# Altium integrated library Altium_WCAP-ASLI (rev22d).IntLib: 142 symbols (part 3 of 3)
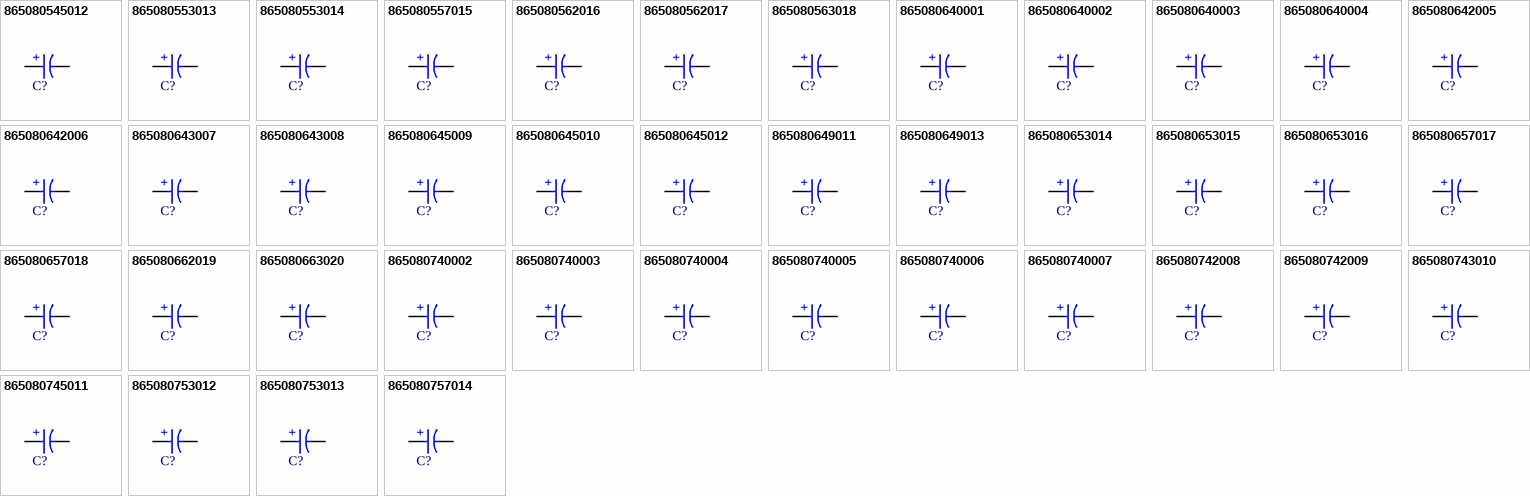
[diagram p5: symbols 865080545012 to 865080757014]

## 865080657017
designator C?, comment 150uF  (value not drawn)
WCAP-ASLI Aluminum Electrolytic Capacitor, V-Chip, D10 x H10.5mm, 150uF, 50V; Manufacturer Part Number: 865080657017; Manufacturer: Wurth Elektronik; Capacitance Tolerance: +/-20%; Dissipation Factor: 12%; Endurance: 2000h; Leakage Current: 75uA; Ripple Current: 600mA; Technical Reference: ASEF105151M050DVCTEB000; Category: Aluminum Electrolytic Capacitors; Match Code: WCAP-ASLI; ComponentLink1Description: Website Link; ComponentLink1URL: https://www.we-online.com/redexpert/article/865080657017?ad; ComponentLink2Description: Datasheet Link; ComponentLink2URL: https://www.we-online.com/redexpert/spec/865080657017?ad; Mount: Surface Mount; Operating Temperature Max: 105°C; Operating Temperature Min: -55°C; Packaging: Tape and Reel; Height: 10.5mm; Diameter: 10mm; Capacitance: 150uF; Rated Voltage (DC): 50V
footprint WCAP-ASLI_D10H10.5
simulation model 865080657017_150uF
pins: 1 P, 2 N
text: +

## 865080657018
designator C?, comment 220uF  (value not drawn)
WCAP-ASLI Aluminum Electrolytic Capacitor, V-Chip, D10 x H10.5mm, 220uF, 50V; Manufacturer Part Number: 865080657018; Manufacturer: Wurth Elektronik; Capacitance Tolerance: +/-20%; Dissipation Factor: 12%; Endurance: 2000h; Leakage Current: 110uA; Ripple Current: 650mA; Technical Reference: ASEF105221M050DVCTEB000; Category: Aluminum Electrolytic Capacitors; Match Code: WCAP-ASLI; ComponentLink1Description: Website Link; ComponentLink1URL: https://www.we-online.com/redexpert/article/865080657018?ad; ComponentLink2Description: Datasheet Link; ComponentLink2URL: https://www.we-online.com/redexpert/spec/865080657018?ad; Mount: Surface Mount; Operating Temperature Max: 105°C; Operating Temperature Min: -55°C; Packaging: Tape and Reel; Height: 10.5mm; Diameter: 10mm; Capacitance: 220uF; Rated Voltage (DC): 50V
footprint WCAP-ASLI_D10H10.5
simulation model 865080657018_220uF
pins: 1 P, 2 N
text: +

## 865080662019
designator C?, comment 330uF  (value not drawn)
WCAP-ASLI Aluminum Electrolytic Capacitor, V-Chip, D12.5 x H14mm, 330uF, 50V; Manufacturer Part Number: 865080662019; Manufacturer: Wurth Elektronik; Capacitance Tolerance: +/-20%; Dissipation Factor: 12%; Endurance: 5000h; Leakage Current: 165uA; Ripple Current: 800mA; Technical Reference: ASEH140331M050DVCTGE000; Category: Aluminum Electrolytic Capacitors; Match Code: WCAP-ASLI; ComponentLink1Description: Website Link; ComponentLink1URL: https://www.we-online.com/redexpert/article/865080662019?ad; ComponentLink2Description: Datasheet Link; ComponentLink2URL: https://www.we-online.com/redexpert/spec/865080662019?ad; Mount: Surface Mount; Operating Temperature Max: 105°C; Operating Temperature Min: -55°C; Packaging: Tape and Reel; Height: 14mm; Diameter: 12.5mm; Capacitance: 330uF; Rated Voltage (DC): 50V
footprint WCAP-ASLI_D12.5H14
simulation model 865080662019_330uF
pins: 1 P, 2 N
text: +

## 865080663020
designator C?, comment 1000uF  (value not drawn)
WCAP-ASLI Aluminum Electrolytic Capacitor, V-Chip, D16 x H17mm, 1000uF, 50V; Manufacturer Part Number: 865080663020; Manufacturer: Wurth Elektronik; Capacitance Tolerance: +/-20%; Dissipation Factor: 12%; Endurance: 5000h; Leakage Current: 500uA; Ripple Current: 1000mA; Technical Reference: ASEK170102M050DVCTHE000; Category: Aluminum Electrolytic Capacitors; Match Code: WCAP-ASLI; ComponentLink1Description: Website Link; ComponentLink1URL: https://www.we-online.com/redexpert/article/865080663020?ad; ComponentLink2Description: Datasheet Link; ComponentLink2URL: https://www.we-online.com/redexpert/spec/865080663020?ad; Mount: Surface Mount; Operating Temperature Max: 105°C; Operating Temperature Min: -55°C; Packaging: Tape and Reel; Height: 17mm; Diameter: 16mm; Capacitance: 1000uF; Rated Voltage (DC): 50V
footprint WCAP-ASLI_D16H17
simulation model 865080663020_1mF
pins: 1 P, 2 N
text: +

## 865080740002
designator C?, comment 0.1uF  (value not drawn)
WCAP-ASLI Aluminum Electrolytic Capacitor, V-Chip, D4 x H5.5mm, 0.1uF, 63V; Manufacturer Part Number: 865080740002; Manufacturer: Wurth Elektronik; Capacitance Tolerance: +/-20%; Dissipation Factor: 12%; Endurance: 2000h; Leakage Current: 3uA; Ripple Current: 1mA; Technical Reference: ASEB055R10M063DVCTAB000; Category: Aluminum Electrolytic Capacitors; Match Code: WCAP-ASLI; ComponentLink1Description: Website Link; ComponentLink1URL: https://www.we-online.com/redexpert/article/865080740002?ad; ComponentLink2Description: Datasheet Link; ComponentLink2URL: https://www.we-online.com/redexpert/spec/865080740002?ad; Mount: Surface Mount; Operating Temperature Max: 105°C; Operating Temperature Min: -55°C; Packaging: Tape and Reel; Height: 5.5mm; Diameter: 4mm; Capacitance: 0.1uF; Rated Voltage (DC): 63V
footprint WCAP-ASLI_D4H5.5
simulation model 865080740002_100nF
pins: 1 P, 2 N
text: +

## 865080740003
designator C?, comment 0.22uF  (value not drawn)
WCAP-ASLI Aluminum Electrolytic Capacitor, V-Chip, D4 x H5.5mm, 0.22uF, 63V; Manufacturer Part Number: 865080740003; Manufacturer: Wurth Elektronik; Capacitance Tolerance: +/-20%; Dissipation Factor: 12%; Endurance: 2000h; Leakage Current: 3uA; Ripple Current: 2mA; Technical Reference: ASEB055R22M063DVCTAB000; Category: Aluminum Electrolytic Capacitors; Match Code: WCAP-ASLI; ComponentLink1Description: Website Link; ComponentLink1URL: https://www.we-online.com/redexpert/article/865080740003?ad; ComponentLink2Description: Datasheet Link; ComponentLink2URL: https://www.we-online.com/redexpert/spec/865080740003?ad; Mount: Surface Mount; Operating Temperature Max: 105°C; Operating Temperature Min: -55°C; Packaging: Tape and Reel; Height: 5.5mm; Diameter: 4mm; Capacitance: 0.22uF; Rated Voltage (DC): 63V
footprint WCAP-ASLI_D4H5.5
simulation model 865080740003_220nF
pins: 1 P, 2 N
text: +

## 865080740004
designator C?, comment 0.33uF  (value not drawn)
WCAP-ASLI Aluminum Electrolytic Capacitor, V-Chip, D4 x H5.5mm, 0.33uF, 63V; Manufacturer Part Number: 865080740004; Manufacturer: Wurth Elektronik; Capacitance Tolerance: +/-20%; Dissipation Factor: 12%; Endurance: 2000h; Leakage Current: 3uA; Ripple Current: 3mA; Technical Reference: ASEB055R33M063DVCTAB000; Category: Aluminum Electrolytic Capacitors; Match Code: WCAP-ASLI; ComponentLink1Description: Website Link; ComponentLink1URL: https://www.we-online.com/redexpert/article/865080740004?ad; ComponentLink2Description: Datasheet Link; ComponentLink2URL: https://www.we-online.com/redexpert/spec/865080740004?ad; Mount: Surface Mount; Operating Temperature Max: 105°C; Operating Temperature Min: -55°C; Packaging: Tape and Reel; Height: 5.5mm; Diameter: 4mm; Capacitance: 0.33uF; Rated Voltage (DC): 63V
footprint WCAP-ASLI_D4H5.5
simulation model 865080740004_330nF
pins: 1 P, 2 N
text: +

## 865080740005
designator C?, comment 0.47uF  (value not drawn)
WCAP-ASLI Aluminum Electrolytic Capacitor, V-Chip, D4 x H5.5mm, 0.47uF, 63V; Manufacturer Part Number: 865080740005; Manufacturer: Wurth Elektronik; Capacitance Tolerance: +/-20%; Dissipation Factor: 12%; Endurance: 2000h; Leakage Current: 3uA; Ripple Current: 3.5mA; Technical Reference: ASEB055R47M063DVCTAB000; Category: Aluminum Electrolytic Capacitors; Match Code: WCAP-ASLI; ComponentLink1Description: Website Link; ComponentLink1URL: https://www.we-online.com/redexpert/article/865080740005?ad; ComponentLink2Description: Datasheet Link; ComponentLink2URL: https://www.we-online.com/redexpert/spec/865080740005?ad; Mount: Surface Mount; Operating Temperature Max: 105°C; Operating Temperature Min: -55°C; Packaging: Tape and Reel; Height: 5.5mm; Diameter: 4mm; Capacitance: 0.47uF; Rated Voltage (DC): 63V
footprint WCAP-ASLI_D4H5.5
simulation model 865080740005_470nF
pins: 1 P, 2 N
text: +

## 865080740006
designator C?, comment 1uF  (value not drawn)
WCAP-ASLI Aluminum Electrolytic Capacitor, V-Chip, D4 x H5.5mm, 1uF, 63V; Manufacturer Part Number: 865080740006; Manufacturer: Wurth Elektronik; Capacitance Tolerance: +/-20%; Dissipation Factor: 12%; Endurance: 2000h; Leakage Current: 3uA; Ripple Current: 7mA; Technical Reference: ASEB055010M063DVCTAB000; Category: Aluminum Electrolytic Capacitors; Match Code: WCAP-ASLI; ComponentLink1Description: Website Link; ComponentLink1URL: https://www.we-online.com/redexpert/article/865080740006?ad; ComponentLink2Description: Datasheet Link; ComponentLink2URL: https://www.we-online.com/redexpert/spec/865080740006?ad; Mount: Surface Mount; Operating Temperature Max: 105°C; Operating Temperature Min: -55°C; Packaging: Tape and Reel; Height: 5.5mm; Diameter: 4mm; Capacitance: 1uF; Rated Voltage (DC): 63V
footprint WCAP-ASLI_D4H5.5
simulation model 865080740006_1uF
pins: 1 P, 2 N
text: +

## 865080740007
designator C?, comment 2.2uF  (value not drawn)
WCAP-ASLI Aluminum Electrolytic Capacitor, V-Chip, D4 x H5.5mm, 2.2uF, 63V; Manufacturer Part Number: 865080740007; Manufacturer: Wurth Elektronik; Capacitance Tolerance: +/-20%; Dissipation Factor: 12%; Endurance: 2000h; Leakage Current: 3uA; Ripple Current: 11mA; Technical Reference: ASEB0552R2M063DVCTAB000; Category: Aluminum Electrolytic Capacitors; Match Code: WCAP-ASLI; ComponentLink1Description: Website Link; ComponentLink1URL: https://www.we-online.com/redexpert/article/865080740007?ad; ComponentLink2Description: Datasheet Link; ComponentLink2URL: https://www.we-online.com/redexpert/spec/865080740007?ad; Mount: Surface Mount; Operating Temperature Max: 105°C; Operating Temperature Min: -55°C; Packaging: Tape and Reel; Height: 5.5mm; Diameter: 4mm; Capacitance: 2.2uF; Rated Voltage (DC): 63V
footprint WCAP-ASLI_D4H5.5
simulation model 865080740007_2.2uF
pins: 1 P, 2 N
text: +

## 865080742008
designator C?, comment 3.3uF  (value not drawn)
WCAP-ASLI Aluminum Electrolytic Capacitor, V-Chip, D5 x H5.5mm, 3.3uF, 63V; Manufacturer Part Number: 865080742008; Manufacturer: Wurth Elektronik; Capacitance Tolerance: +/-20%; Dissipation Factor: 12%; Endurance: 2000h; Leakage Current: 3uA; Ripple Current: 14mA; Technical Reference: ASEC0553R3M063DVCTBB000; Category: Aluminum Electrolytic Capacitors; Match Code: WCAP-ASLI; ComponentLink1Description: Website Link; ComponentLink1URL: https://www.we-online.com/redexpert/article/865080742008?ad; ComponentLink2Description: Datasheet Link; ComponentLink2URL: https://www.we-online.com/redexpert/spec/865080742008?ad; Mount: Surface Mount; Operating Temperature Max: 105°C; Operating Temperature Min: -55°C; Packaging: Tape and Reel; Height: 5.5mm; Diameter: 5mm; Capacitance: 3.3uF; Rated Voltage (DC): 63V
footprint WCAP-ASLI_D5H5.5
simulation model 865080742008_3.3uF
pins: 1 P, 2 N
text: +

## 865080742009
designator C?, comment 4.7uF  (value not drawn)
WCAP-ASLI Aluminum Electrolytic Capacitor, V-Chip, D5 x H5.5mm, 4.7uF, 63V; Manufacturer Part Number: 865080742009; Manufacturer: Wurth Elektronik; Capacitance Tolerance: +/-20%; Dissipation Factor: 12%; Endurance: 2000h; Leakage Current: 3uA; Ripple Current: 22mA; Technical Reference: ASEC0554R7M063DVCTBB000; Category: Aluminum Electrolytic Capacitors; Match Code: WCAP-ASLI; ComponentLink1Description: Website Link; ComponentLink1URL: https://www.we-online.com/redexpert/article/865080742009?ad; ComponentLink2Description: Datasheet Link; ComponentLink2URL: https://www.we-online.com/redexpert/spec/865080742009?ad; Mount: Surface Mount; Operating Temperature Max: 105°C; Operating Temperature Min: -55°C; Packaging: Tape and Reel; Height: 5.5mm; Diameter: 5mm; Capacitance: 4.7uF; Rated Voltage (DC): 63V
footprint WCAP-ASLI_D5H5.5
simulation model 865080742009_4.7uF
pins: 1 P, 2 N
text: +

## 865080743010
designator C?, comment 10uF  (value not drawn)
WCAP-ASLI Aluminum Electrolytic Capacitor, V-Chip, D6.3 x H5.5mm, 10uF, 63V; Manufacturer Part Number: 865080743010; Manufacturer: Wurth Elektronik; Capacitance Tolerance: +/-20%; Dissipation Factor: 12%; Endurance: 2000h; Leakage Current: 6.3uA; Ripple Current: 40mA; Technical Reference: ASED055100M063DVCTBB000; Category: Aluminum Electrolytic Capacitors; Match Code: WCAP-ASLI; ComponentLink1Description: Website Link; ComponentLink1URL: https://www.we-online.com/redexpert/article/865080743010?ad; ComponentLink2Description: Datasheet Link; ComponentLink2URL: https://www.we-online.com/redexpert/spec/865080743010?ad; Mount: Surface Mount; Operating Temperature Max: 105°C; Operating Temperature Min: -55°C; Packaging: Tape and Reel; Height: 5.5mm; Diameter: 6.3mm; Capacitance: 10uF; Rated Voltage (DC): 63V
footprint WCAP-ASLI_D6.3H5.5
simulation model 865080743010_10uF
pins: 1 P, 2 N
text: +

## 865080745011
designator C?, comment 22uF  (value not drawn)
WCAP-ASLI Aluminum Electrolytic Capacitor, V-Chip, D6.3 x H7.7mm, 22uF, 63V; Manufacturer Part Number: 865080745011; Manufacturer: Wurth Elektronik; Capacitance Tolerance: +/-20%; Dissipation Factor: 12%; Endurance: 2000h; Leakage Current: 13.86uA; Ripple Current: 58mA; Technical Reference: ASED077220M063DVCTCB000; Category: Aluminum Electrolytic Capacitors; Match Code: WCAP-ASLI; ComponentLink1Description: Website Link; ComponentLink1URL: https://www.we-online.com/redexpert/article/865080745011?ad; ComponentLink2Description: Datasheet Link; ComponentLink2URL: https://www.we-online.com/redexpert/spec/865080745011?ad; Mount: Surface Mount; Operating Temperature Max: 105°C; Operating Temperature Min: -55°C; Packaging: Tape and Reel; Height: 7.7mm; Diameter: 6.3mm; Capacitance: 22uF; Rated Voltage (DC): 63V
footprint WCAP-ASLI_D6.3H7.7
simulation model 865080745011_22uF
pins: 1 P, 2 N
text: +

## 865080753012
designator C?, comment 33uF  (value not drawn)
WCAP-ASLI Aluminum Electrolytic Capacitor, V-Chip, D8 x H10.5mm, 33uF, 63V; Manufacturer Part Number: 865080753012; Manufacturer: Wurth Elektronik; Capacitance Tolerance: +/-20%; Dissipation Factor: 12%; Endurance: 2000h; Leakage Current: 20.79uA; Ripple Current: 112mA; Technical Reference: ASEE105330M063DVCTEB000; Category: Aluminum Electrolytic Capacitors; Match Code: WCAP-ASLI; ComponentLink1Description: Website Link; ComponentLink1URL: https://www.we-online.com/redexpert/article/865080753012?ad; ComponentLink2Description: Datasheet Link; ComponentLink2URL: https://www.we-online.com/redexpert/spec/865080753012?ad; Mount: Surface Mount; Operating Temperature Max: 105°C; Operating Temperature Min: -55°C; Packaging: Tape and Reel; Height: 10.5mm; Diameter: 8mm; Capacitance: 33uF; Rated Voltage (DC): 63V
footprint WCAP-ASLI_D8H10.5
simulation model 865080753012_33uF
pins: 1 P, 2 N
text: +

## 865080753013
designator C?, comment 47uF  (value not drawn)
WCAP-ASLI Aluminum Electrolytic Capacitor, V-Chip, D8 x H10.5mm, 47uF, 63V; Manufacturer Part Number: 865080753013; Manufacturer: Wurth Elektronik; Capacitance Tolerance: +/-20%; Dissipation Factor: 12%; Endurance: 2000h; Leakage Current: 29.61uA; Ripple Current: 119mA; Technical Reference: ASEE105470M063DVCTEB000; Category: Aluminum Electrolytic Capacitors; Match Code: WCAP-ASLI; ComponentLink1Description: Website Link; ComponentLink1URL: https://www.we-online.com/redexpert/article/865080753013?ad; ComponentLink2Description: Datasheet Link; ComponentLink2URL: https://www.we-online.com/redexpert/spec/865080753013?ad; Mount: Surface Mount; Operating Temperature Max: 105°C; Operating Temperature Min: -55°C; Packaging: Tape and Reel; Height: 10.5mm; Diameter: 8mm; Capacitance: 47uF; Rated Voltage (DC): 63V
footprint WCAP-ASLI_D8H10.5
simulation model 865080753013_47uF
pins: 1 P, 2 N
text: +

## 865080757014
designator C?, comment 100uF  (value not drawn)
WCAP-ASLI Aluminum Electrolytic Capacitor, V-Chip, D10 x H10.5mm, 100uF, 63V; Manufacturer Part Number: 865080757014; Manufacturer: Wurth Elektronik; Capacitance Tolerance: +/-20%; Dissipation Factor: 12%; Endurance: 2000h; Leakage Current: 63uA; Ripple Current: 280mA; Technical Reference: ASEF105101M063DVCTEB000; Category: Aluminum Electrolytic Capacitors; Match Code: WCAP-ASLI; ComponentLink1Description: Website Link; ComponentLink1URL: https://www.we-online.com/redexpert/article/865080757014?ad; ComponentLink2Description: Datasheet Link; ComponentLink2URL: https://www.we-online.com/redexpert/spec/865080757014?ad; Mount: Surface Mount; Operating Temperature Max: 105°C; Operating Temperature Min: -55°C; Packaging: Tape and Reel; Height: 10.5mm; Diameter: 10mm; Capacitance: 100uF; Rated Voltage (DC): 63V
footprint WCAP-ASLI_D10H10.5
simulation model 865080757014_100uF
pins: 1 P, 2 N
text: +

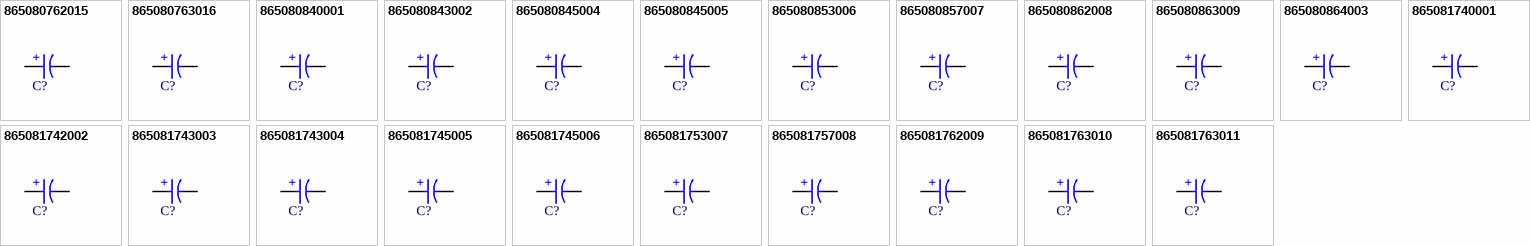
[diagram p3: symbols 865080762015 to 865081763011]

## 865080762015
designator C?, comment 220uF  (value not drawn)
WCAP-ASLI Aluminum Electrolytic Capacitor, V-Chip, D12.5 x H14mm, 220uF, 63V; Manufacturer Part Number: 865080762015; Manufacturer: Wurth Elektronik; Capacitance Tolerance: +/-20%; Dissipation Factor: 12%; Endurance: 2000h; Leakage Current: 138.6uA; Ripple Current: 300mA; Technical Reference: ASEH140221M063DVCTGB000; Category: Aluminum Electrolytic Capacitors; Match Code: WCAP-ASLI; ComponentLink1Description: Website Link; ComponentLink1URL: https://www.we-online.com/redexpert/article/865080762015?ad; ComponentLink2Description: Datasheet Link; ComponentLink2URL: https://www.we-online.com/redexpert/spec/865080762015?ad; Mount: Surface Mount; Operating Temperature Max: 105°C; Operating Temperature Min: -55°C; Packaging: Tape and Reel; Height: 14mm; Diameter: 12.5mm; Capacitance: 220uF; Rated Voltage (DC): 63V
footprint WCAP-ASLI_D12.5H14
simulation model 865080762015_220uF
pins: 1 P, 2 N
text: +

## 865080763016
designator C?, comment 470uF  (value not drawn)
WCAP-ASLI Aluminum Electrolytic Capacitor, V-Chip, D16 x H17mm, 470uF, 63V; Manufacturer Part Number: 865080763016; Manufacturer: Wurth Elektronik; Capacitance Tolerance: +/-20%; Dissipation Factor: 12%; Endurance: 2000h; Leakage Current: 296.1uA; Ripple Current: 630mA; Technical Reference: ASEK170471M063DVCTHB000; Category: Aluminum Electrolytic Capacitors; Match Code: WCAP-ASLI; ComponentLink1Description: Website Link; ComponentLink1URL: https://www.we-online.com/redexpert/article/865080763016?ad; ComponentLink2Description: Datasheet Link; ComponentLink2URL: https://www.we-online.com/redexpert/spec/865080763016?ad; Mount: Surface Mount; Operating Temperature Max: 105°C; Operating Temperature Min: -55°C; Packaging: Tape and Reel; Height: 17mm; Diameter: 16mm; Capacitance: 470uF; Rated Voltage (DC): 63V
footprint WCAP-ASLI_D16H17
simulation model 865080763016_470uF
pins: 1 P, 2 N
text: +

## 865080840001
designator C?, comment 1uF  (value not drawn)
WCAP-ASLI Aluminum Electrolytic Capacitor, V-Chip, D4 x H5.5mm, 1uF, 100V; Manufacturer Part Number: 865080840001; Manufacturer: Wurth Elektronik; Capacitance Tolerance: +/-20%; Dissipation Factor: 10%; Endurance: 2000h; Leakage Current: 3uA; Ripple Current: 7mA; Technical Reference: ASEB055010M100DVCTAB000; Category: Aluminum Electrolytic Capacitors; Match Code: WCAP-ASLI; ComponentLink1Description: Website Link; ComponentLink1URL: https://www.we-online.com/redexpert/article/865080840001?ad; ComponentLink2Description: Datasheet Link; ComponentLink2URL: https://www.we-online.com/redexpert/spec/865080840001?ad; Mount: Surface Mount; Operating Temperature Max: 105°C; Operating Temperature Min: -55°C; Packaging: Tape and Reel; Height: 5.5mm; Diameter: 4mm; Capacitance: 1uF; Rated Voltage (DC): 100V
footprint WCAP-ASLI_D4H5.5
simulation model 865080840001_1uF
pins: 1 P, 2 N
text: +

## 865080843002
designator C?, comment 2.2uF  (value not drawn)
WCAP-ASLI Aluminum Electrolytic Capacitor, V-Chip, D6.3 x H5.5mm, 2.2uF, 100V; Manufacturer Part Number: 865080843002; Manufacturer: Wurth Elektronik; Capacitance Tolerance: +/-20%; Dissipation Factor: 10%; Endurance: 2000h; Leakage Current: 3uA; Ripple Current: 13mA; Technical Reference: ASED0552R2M100DVCTBB000; Category: Aluminum Electrolytic Capacitors; Match Code: WCAP-ASLI; ComponentLink1Description: Website Link; ComponentLink1URL: https://www.we-online.com/redexpert/article/865080843002?ad; ComponentLink2Description: Datasheet Link; ComponentLink2URL: https://www.we-online.com/redexpert/spec/865080843002?ad; Mount: Surface Mount; Operating Temperature Max: 105°C; Operating Temperature Min: -55°C; Packaging: Tape and Reel; Height: 5.5mm; Diameter: 6.3mm; Capacitance: 2.2uF; Rated Voltage (DC): 100V
footprint WCAP-ASLI_D6.3H5.5
simulation model 865080843002_2.2uF
pins: 1 P, 2 N
text: +

## 865080845004
designator C?, comment 4.7uF  (value not drawn)
WCAP-ASLI Aluminum Electrolytic Capacitor, V-Chip, D6.3 x H7.7mm, 4.7uF, 100V; Manufacturer Part Number: 865080845004; Manufacturer: Wurth Elektronik; Capacitance Tolerance: +/-20%; Dissipation Factor: 10%; Endurance: 2000h; Leakage Current: 4.7uA; Ripple Current: 28mA; Technical Reference: ASED0774R7M100DVCTCB000; Category: Aluminum Electrolytic Capacitors; Match Code: WCAP-ASLI; ComponentLink1Description: Website Link; ComponentLink1URL: https://www.we-online.com/redexpert/article/865080845004?ad; ComponentLink2Description: Datasheet Link; ComponentLink2URL: https://www.we-online.com/redexpert/spec/865080845004?ad; Mount: Surface Mount; Operating Temperature Max: 105°C; Operating Temperature Min: -55°C; Packaging: Tape and Reel; Height: 7.7mm; Diameter: 6.3mm; Capacitance: 4.7uF; Rated Voltage (DC): 100V
footprint WCAP-ASLI_D6.3H7.7
simulation model 865080845004_4.7uF
pins: 1 P, 2 N
text: +

## 865080845005
designator C?, comment 10uF  (value not drawn)
WCAP-ASLI Aluminum Electrolytic Capacitor, V-Chip, D6.3 x H7.7mm, 10uF, 100V; Manufacturer Part Number: 865080845005; Manufacturer: Wurth Elektronik; Capacitance Tolerance: +/-20%; Dissipation Factor: 10%; Endurance: 2000h; Leakage Current: 10uA; Ripple Current: 35mA; Technical Reference: ASED077100M100DVCTCB000; Category: Aluminum Electrolytic Capacitors; Match Code: WCAP-ASLI; ComponentLink1Description: Website Link; ComponentLink1URL: https://www.we-online.com/redexpert/article/865080845005?ad; ComponentLink2Description: Datasheet Link; ComponentLink2URL: https://www.we-online.com/redexpert/spec/865080845005?ad; Mount: Surface Mount; Operating Temperature Max: 105°C; Operating Temperature Min: -55°C; Packaging: Tape and Reel; Height: 7.7mm; Diameter: 6.3mm; Capacitance: 10uF; Rated Voltage (DC): 100V
footprint WCAP-ASLI_D6.3H7.7
simulation model 865080845005_10uF
pins: 1 P, 2 N
text: +

## 865080853006
designator C?, comment 22uF  (value not drawn)
WCAP-ASLI Aluminum Electrolytic Capacitor, V-Chip, D8 x H10.5mm, 22uF, 100V; Manufacturer Part Number: 865080853006; Manufacturer: Wurth Elektronik; Capacitance Tolerance: +/-20%; Dissipation Factor: 10%; Endurance: 2000h; Leakage Current: 22uA; Ripple Current: 85mA; Technical Reference: ASEE105220M100DVCTEB000; Category: Aluminum Electrolytic Capacitors; Match Code: WCAP-ASLI; ComponentLink1Description: Website Link; ComponentLink1URL: https://www.we-online.com/redexpert/article/865080853006?ad; ComponentLink2Description: Datasheet Link; ComponentLink2URL: https://www.we-online.com/redexpert/spec/865080853006?ad; Mount: Surface Mount; Operating Temperature Max: 105°C; Operating Temperature Min: -55°C; Packaging: Tape and Reel; Height: 10.5mm; Diameter: 8mm; Capacitance: 22uF; Rated Voltage (DC): 100V
footprint WCAP-ASLI_D8H10.5
simulation model 865080853006_22uF
pins: 1 P, 2 N
text: +

## 865080857007
designator C?, comment 33uF  (value not drawn)
WCAP-ASLI Aluminum Electrolytic Capacitor, V-Chip, D10 x H10.5mm, 33uF, 100V; Manufacturer Part Number: 865080857007; Manufacturer: Wurth Elektronik; Capacitance Tolerance: +/-20%; Dissipation Factor: 10%; Endurance: 2000h; Leakage Current: 33uA; Ripple Current: 135mA; Technical Reference: ASEF105330M100DVCTEB000; Category: Aluminum Electrolytic Capacitors; Match Code: WCAP-ASLI; ComponentLink1Description: Website Link; ComponentLink1URL: https://www.we-online.com/redexpert/article/865080857007?ad; ComponentLink2Description: Datasheet Link; ComponentLink2URL: https://www.we-online.com/redexpert/spec/865080857007?ad; Mount: Surface Mount; Operating Temperature Max: 105°C; Operating Temperature Min: -55°C; Packaging: Tape and Reel; Height: 10.5mm; Diameter: 10mm; Capacitance: 33uF; Rated Voltage (DC): 100V
footprint WCAP-ASLI_D10H10.5
simulation model 865080857007_33uF
pins: 1 P, 2 N
text: +

## 865080862008
designator C?, comment 47uF  (value not drawn)
WCAP-ASLI Aluminum Electrolytic Capacitor, V-Chip, D12.5 x H14mm, 47uF, 100V; Manufacturer Part Number: 865080862008; Manufacturer: Wurth Elektronik; Capacitance Tolerance: +/-20%; Dissipation Factor: 10%; Endurance: 2000h; Leakage Current: 47uA; Ripple Current: 240mA; Technical Reference: ASEH140470M100DVCTGB000; Category: Aluminum Electrolytic Capacitors; Match Code: WCAP-ASLI; ComponentLink1Description: Website Link; ComponentLink1URL: https://www.we-online.com/redexpert/article/865080862008?ad; ComponentLink2Description: Datasheet Link; ComponentLink2URL: https://www.we-online.com/redexpert/spec/865080862008?ad; Mount: Surface Mount; Operating Temperature Max: 105°C; Operating Temperature Min: -55°C; Packaging: Tape and Reel; Height: 14mm; Diameter: 12.5mm; Capacitance: 47uF; Rated Voltage (DC): 100V
footprint WCAP-ASLI_D12.5H14
simulation model 865080862008_47uF
pins: 1 P, 2 N
text: +

## 865080863009
designator C?, comment 150uF  (value not drawn)
WCAP-ASLI Aluminum Electrolytic Capacitor, V-Chip, D16 x H17mm, 150uF, 100V; Manufacturer Part Number: 865080863009; Manufacturer: Wurth Elektronik; Capacitance Tolerance: +/-20%; Dissipation Factor: 10%; Endurance: 2000h; Leakage Current: 150uA; Ripple Current: 500mA; Technical Reference: ASEK170151M100DVCTHB000; Category: Aluminum Electrolytic Capacitors; Match Code: WCAP-ASLI; ComponentLink1Description: Website Link; ComponentLink1URL: https://www.we-online.com/redexpert/article/865080863009?ad; ComponentLink2Description: Datasheet Link; ComponentLink2URL: https://www.we-online.com/redexpert/spec/865080863009?ad; Mount: Surface Mount; Operating Temperature Max: 105°C; Operating Temperature Min: -55°C; Packaging: Tape and Reel; Height: 17mm; Diameter: 16mm; Capacitance: 150uF; Rated Voltage (DC): 100V
footprint WCAP-ASLI_D16H17
simulation model 865080863009_150uF
pins: 1 P, 2 N
text: +

## 865080864003
designator C?, comment 3.3uF  (value not drawn)
WCAP-ASLI Aluminum Electrolytic Capacitor, V-Chip, D6.3 x H6.1mm, 3.3uF, 100V; Manufacturer Part Number: 865080864003; Manufacturer: Wurth Elektronik; Capacitance Tolerance: +/-20%; Dissipation Factor: 10%; Endurance: 2000h; Leakage Current: 3.3uA; Ripple Current: 20mA; Technical Reference: ASED0613R3M100DVCTBB000; Category: Aluminum Electrolytic Capacitors; Match Code: WCAP-ASLI; ComponentLink1Description: Website Link; ComponentLink1URL: https://www.we-online.com/redexpert/article/865080864003?ad; ComponentLink2Description: Datasheet Link; ComponentLink2URL: https://www.we-online.com/redexpert/spec/865080864003?ad; Mount: Surface Mount; Operating Temperature Max: 105°C; Operating Temperature Min: -55°C; Packaging: Tape and Reel; Height: 6.1mm; Diameter: 6.3mm; Capacitance: 3.3uF; Rated Voltage (DC): 100V
footprint WCAP-ASLI_D6.3H6.1
simulation model 865080864003_3.3uF
pins: 1 P, 2 N
text: +

## 865081740001
designator C?, comment 1uF  (value not drawn)
WCAP-ASLI Aluminum Electrolytic Capacitor, V-Chip, D4 x H5.5mm, 1uF, 80V; Manufacturer Part Number: 865081740001; Manufacturer: Wurth Elektronik; Capacitance Tolerance: +/-20%; Dissipation Factor: 10%; Endurance: 2000h; Leakage Current: 3uA; Ripple Current: 7mA; Technical Reference: ASEB055010M080DVCTAB000; Category: Aluminum Electrolytic Capacitors; Match Code: WCAP-ASLI; ComponentLink1Description: Website Link; ComponentLink1URL: https://www.we-online.com/redexpert/article/865081740001?ad; ComponentLink2Description: Datasheet Link; ComponentLink2URL: https://www.we-online.com/redexpert/spec/865081740001?ad; Mount: Surface Mount; Operating Temperature Max: 105°C; Operating Temperature Min: -55°C; Packaging: Tape and Reel; Height: 5.5mm; Diameter: 4mm; Capacitance: 1uF; Rated Voltage (DC): 80V
footprint WCAP-ASLI_D4H5.5
simulation model 865081740001_1uF
pins: 1 P, 2 N
text: +

## 865081742002
designator C?, comment 2.2uF  (value not drawn)
WCAP-ASLI Aluminum Electrolytic Capacitor, V-Chip, D5 x H5.5mm, 2.2uF, 80V; Manufacturer Part Number: 865081742002; Manufacturer: Wurth Elektronik; Capacitance Tolerance: +/-20%; Dissipation Factor: 10%; Endurance: 2000h; Leakage Current: 3uA; Ripple Current: 12mA; Technical Reference: ASEC0552R2M080DVCTBB000; Category: Aluminum Electrolytic Capacitors; Match Code: WCAP-ASLI; ComponentLink1Description: Website Link; ComponentLink1URL: https://www.we-online.com/redexpert/article/865081742002?ad; ComponentLink2Description: Datasheet Link; ComponentLink2URL: https://www.we-online.com/redexpert/spec/865081742002?ad; Mount: Surface Mount; Operating Temperature Max: 105°C; Operating Temperature Min: -55°C; Packaging: Tape and Reel; Height: 5.5mm; Diameter: 5mm; Capacitance: 2.2uF; Rated Voltage (DC): 80V
footprint WCAP-ASLI_D5H5.5
simulation model 865081742002_2.2uF
pins: 1 P, 2 N
text: +

## 865081743003
designator C?, comment 3.3uF  (value not drawn)
WCAP-ASLI Aluminum Electrolytic Capacitor, V-Chip, D6.3 x H5.5mm, 3.3uF, 80V; Manufacturer Part Number: 865081743003; Manufacturer: Wurth Elektronik; Capacitance Tolerance: +/-20%; Dissipation Factor: 10%; Endurance: 2000h; Leakage Current: 3uA; Ripple Current: 17mA; Technical Reference: ASED0553R3M080DVCTBB000; Category: Aluminum Electrolytic Capacitors; Match Code: WCAP-ASLI; ComponentLink1Description: Website Link; ComponentLink1URL: https://www.we-online.com/redexpert/article/865081743003?ad; ComponentLink2Description: Datasheet Link; ComponentLink2URL: https://www.we-online.com/redexpert/spec/865081743003?ad; Mount: Surface Mount; Operating Temperature Max: 105°C; Operating Temperature Min: -55°C; Packaging: Tape and Reel; Height: 5.5mm; Diameter: 6.3mm; Capacitance: 3.3uF; Rated Voltage (DC): 80V
footprint WCAP-ASLI_D6.3H5.5
simulation model 865081743003_3.3uF
pins: 1 P, 2 N
text: +

## 865081743004
designator C?, comment 4.7uF  (value not drawn)
WCAP-ASLI Aluminum Electrolytic Capacitor, V-Chip, D6.3 x H5.5mm, 4.7uF, 80V; Manufacturer Part Number: 865081743004; Manufacturer: Wurth Elektronik; Capacitance Tolerance: +/-20%; Dissipation Factor: 10%; Endurance: 2000h; Leakage Current: 3.76uA; Ripple Current: 25mA; Technical Reference: ASED0554R7M080DVCTBB000; Category: Aluminum Electrolytic Capacitors; Match Code: WCAP-ASLI; ComponentLink1Description: Website Link; ComponentLink1URL: https://www.we-online.com/redexpert/article/865081743004?ad; ComponentLink2Description: Datasheet Link; ComponentLink2URL: https://www.we-online.com/redexpert/spec/865081743004?ad; Mount: Surface Mount; Operating Temperature Max: 105°C; Operating Temperature Min: -55°C; Packaging: Tape and Reel; Height: 5.5mm; Diameter: 6.3mm; Capacitance: 4.7uF; Rated Voltage (DC): 80V
footprint WCAP-ASLI_D6.3H5.5
simulation model 865081743004_4.7uF
pins: 1 P, 2 N
text: +

## 865081745005
designator C?, comment 10uF  (value not drawn)
WCAP-ASLI Aluminum Electrolytic Capacitor, V-Chip, D6.3 x H7.7mm, 10uF, 80V; Manufacturer Part Number: 865081745005; Manufacturer: Wurth Elektronik; Capacitance Tolerance: +/-20%; Dissipation Factor: 10%; Endurance: 2000h; Leakage Current: 8uA; Ripple Current: 35mA; Technical Reference: ASED077100M080DVCTCB000; Category: Aluminum Electrolytic Capacitors; Match Code: WCAP-ASLI; ComponentLink1Description: Website Link; ComponentLink1URL: https://www.we-online.com/redexpert/article/865081745005?ad; ComponentLink2Description: Datasheet Link; ComponentLink2URL: https://www.we-online.com/redexpert/spec/865081745005?ad; Mount: Surface Mount; Operating Temperature Max: 105°C; Operating Temperature Min: -55°C; Packaging: Tape and Reel; Height: 7.7mm; Diameter: 6.3mm; Capacitance: 10uF; Rated Voltage (DC): 80V
footprint WCAP-ASLI_D6.3H7.7
simulation model 865081745005_10uF
pins: 1 P, 2 N
text: +

## 865081745006
designator C?, comment 22uF  (value not drawn)
WCAP-ASLI Aluminum Electrolytic Capacitor, V-Chip, D6.3 x H7.7mm, 22uF, 80V; Manufacturer Part Number: 865081745006; Manufacturer: Wurth Elektronik; Capacitance Tolerance: +/-20%; Dissipation Factor: 10%; Endurance: 2000h; Leakage Current: 17.6uA; Ripple Current: 58mA; Technical Reference: ASED077220M080DVCTCB000; Category: Aluminum Electrolytic Capacitors; Match Code: WCAP-ASLI; ComponentLink1Description: Website Link; ComponentLink1URL: https://www.we-online.com/redexpert/article/865081745006?ad; ComponentLink2Description: Datasheet Link; ComponentLink2URL: https://www.we-online.com/redexpert/spec/865081745006?ad; Mount: Surface Mount; Operating Temperature Max: 105°C; Operating Temperature Min: -55°C; Packaging: Tape and Reel; Height: 7.7mm; Diameter: 6.3mm; Capacitance: 22uF; Rated Voltage (DC): 80V
footprint WCAP-ASLI_D6.3H7.7
simulation model 865081745006_22uF
pins: 1 P, 2 N
text: +

## 865081753007
designator C?, comment 33uF  (value not drawn)
WCAP-ASLI Aluminum Electrolytic Capacitor, V-Chip, D8 x H10.5mm, 33uF, 80V; Manufacturer Part Number: 865081753007; Manufacturer: Wurth Elektronik; Capacitance Tolerance: +/-20%; Dissipation Factor: 10%; Endurance: 2000h; Leakage Current: 26.4uA; Ripple Current: 112mA; Technical Reference: ASEE105330M080DVCTEB000; Category: Aluminum Electrolytic Capacitors; Match Code: WCAP-ASLI; ComponentLink1Description: Website Link; ComponentLink1URL: https://www.we-online.com/redexpert/article/865081753007?ad; ComponentLink2Description: Datasheet Link; ComponentLink2URL: https://www.we-online.com/redexpert/spec/865081753007?ad; Mount: Surface Mount; Operating Temperature Max: 105°C; Operating Temperature Min: -55°C; Packaging: Tape and Reel; Height: 10.5mm; Diameter: 8mm; Capacitance: 33uF; Rated Voltage (DC): 80V
footprint WCAP-ASLI_D8H10.5
simulation model 865081753007_33uF
pins: 1 P, 2 N
text: +

## 865081757008
designator C?, comment 47uF  (value not drawn)
WCAP-ASLI Aluminum Electrolytic Capacitor, V-Chip, D10 x H10.5mm, 47uF, 80V; Manufacturer Part Number: 865081757008; Manufacturer: Wurth Elektronik; Capacitance Tolerance: +/-20%; Dissipation Factor: 10%; Endurance: 2000h; Leakage Current: 37.6uA; Ripple Current: 160mA; Technical Reference: ASEF105470M080DVCTEB000; Category: Aluminum Electrolytic Capacitors; Match Code: WCAP-ASLI; ComponentLink1Description: Website Link; ComponentLink1URL: https://www.we-online.com/redexpert/article/865081757008?ad; ComponentLink2Description: Datasheet Link; ComponentLink2URL: https://www.we-online.com/redexpert/spec/865081757008?ad; Mount: Surface Mount; Operating Temperature Max: 105°C; Operating Temperature Min: -55°C; Packaging: Tape and Reel; Height: 10.5mm; Diameter: 10mm; Capacitance: 47uF; Rated Voltage (DC): 80V
footprint WCAP-ASLI_D10H10.5
simulation model 865081757008_47uF
pins: 1 P, 2 N
text: +

## 865081762009
designator C?, comment 100uF  (value not drawn)
WCAP-ASLI Aluminum Electrolytic Capacitor, V-Chip, D12.5 x H14mm, 100uF, 80V; Manufacturer Part Number: 865081762009; Manufacturer: Wurth Elektronik; Capacitance Tolerance: +/-20%; Dissipation Factor: 10%; Endurance: 2000h; Leakage Current: 80uA; Ripple Current: 380mA; Technical Reference: ASEH140101M080DVCTGB000; Category: Aluminum Electrolytic Capacitors; Match Code: WCAP-ASLI; ComponentLink1Description: Website Link; ComponentLink1URL: https://www.we-online.com/redexpert/article/865081762009?ad; ComponentLink2Description: Datasheet Link; ComponentLink2URL: https://www.we-online.com/redexpert/spec/865081762009?ad; Mount: Surface Mount; Operating Temperature Max: 105°C; Operating Temperature Min: -55°C; Packaging: Tape and Reel; Height: 14mm; Diameter: 12.5mm; Capacitance: 100uF; Rated Voltage (DC): 80V
footprint WCAP-ASLI_D12.5H14
simulation model 865081762009_100uF
pins: 1 P, 2 N
text: +

## 865081763010
designator C?, comment 150uF  (value not drawn)
WCAP-ASLI Aluminum Electrolytic Capacitor, V-Chip, D16 x H17mm, 150uF, 80V; Manufacturer Part Number: 865081763010; Manufacturer: Wurth Elektronik; Capacitance Tolerance: +/-20%; Dissipation Factor: 10%; Endurance: 2000h; Leakage Current: 120uA; Ripple Current: 500mA; Technical Reference: ASEK170151M080DVCTHB000; Category: Aluminum Electrolytic Capacitors; Match Code: WCAP-ASLI; ComponentLink1Description: Website Link; ComponentLink1URL: https://www.we-online.com/redexpert/article/865081763010?ad; ComponentLink2Description: Datasheet Link; ComponentLink2URL: https://www.we-online.com/redexpert/spec/865081763010?ad; Mount: Surface Mount; Operating Temperature Max: 105°C; Operating Temperature Min: -55°C; Packaging: Tape and Reel; Height: 17mm; Diameter: 16mm; Capacitance: 150uF; Rated Voltage (DC): 80V
footprint WCAP-ASLI_D16H17
simulation model 865081763010_150uF
pins: 1 P, 2 N
text: +

## 865081763011
designator C?, comment 220uF  (value not drawn)
WCAP-ASLI Aluminum Electrolytic Capacitor, V-Chip, D16 x H17mm, 220uF, 80V; Manufacturer Part Number: 865081763011; Manufacturer: Wurth Elektronik; Capacitance Tolerance: +/-20%; Dissipation Factor: 10%; Endurance: 2000h; Leakage Current: 176uA; Ripple Current: 600mA; Technical Reference: ASEK170221M080DVCTHB000; Category: Aluminum Electrolytic Capacitors; Match Code: WCAP-ASLI; ComponentLink1Description: Website Link; ComponentLink1URL: https://www.we-online.com/redexpert/article/865081763011?ad; ComponentLink2Description: Datasheet Link; ComponentLink2URL: https://www.we-online.com/redexpert/spec/865081763011?ad; Mount: Surface Mount; Operating Temperature Max: 105°C; Operating Temperature Min: -55°C; Packaging: Tape and Reel; Height: 17mm; Diameter: 16mm; Capacitance: 220uF; Rated Voltage (DC): 80V
footprint WCAP-ASLI_D16H17
simulation model 865081763011_220uF
pins: 1 P, 2 N
text: +